# Altium schematic symbol library Sika_revb.SchLib: 143 symbols (part 3 of 3)
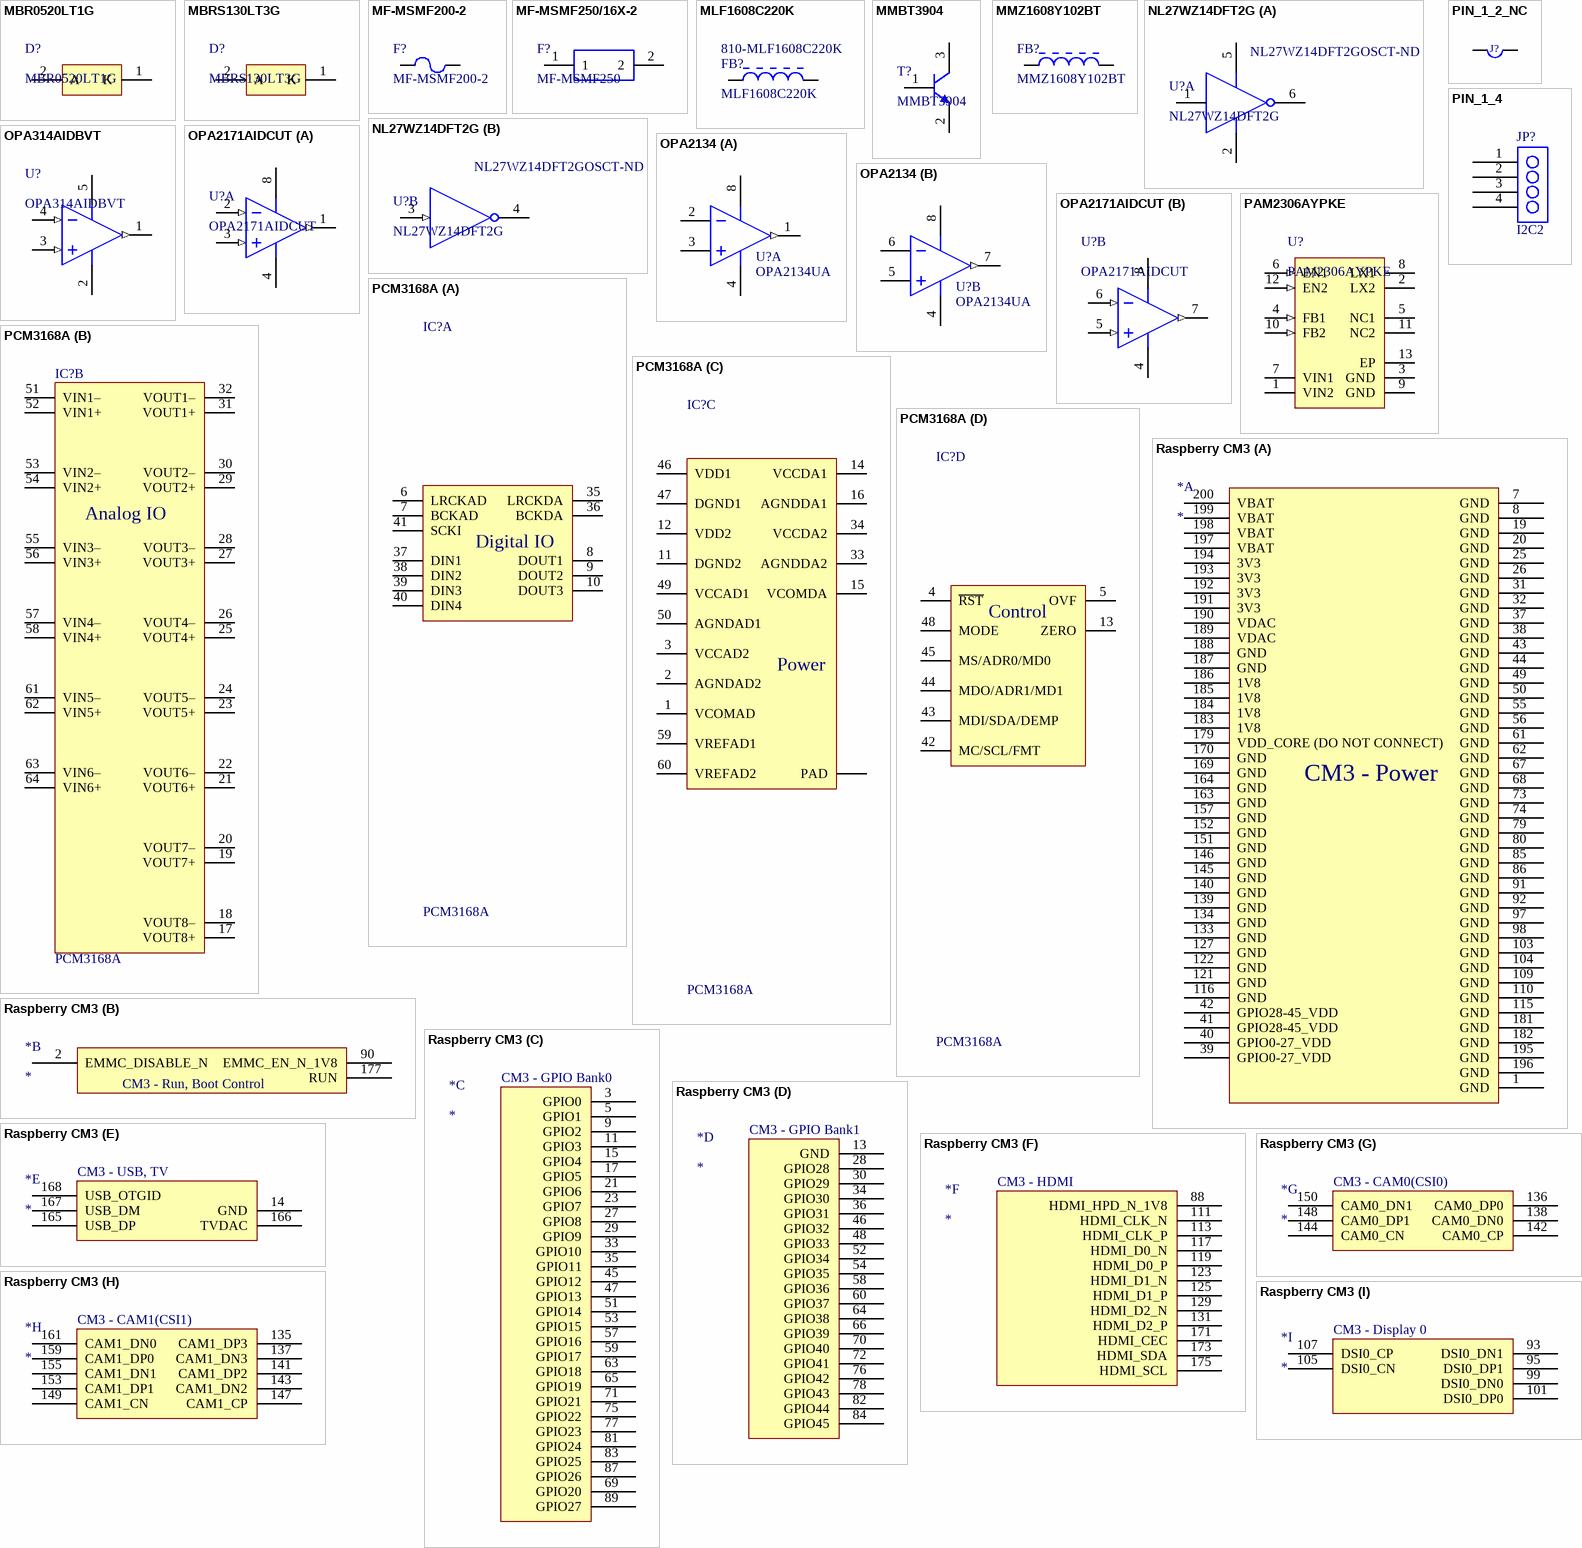
[diagram p6: symbols MBR0520LT1G to Raspberry CM3]

## NL27WZ14DFT2G
designator U?  Supplier Part Number 1: NL27WZ14DFT2GOSCT-ND
IC INVERTER SCHMITT 2CH SC88; Manufacturer: ON Semiconductor; Output Current: 32mA; Number of Inputs: 1; Propagation Delay: 9.1ns; Logic Function: Buffer; Number of Elements: 2; Min Supply Voltage: 2.3V; Max Supply Voltage: 5.5V; Quiescent Current: 1uA; High Level Output Current: -32mA; Schmitt Trigger Input: Yes; Supplier 1: Digi-Key; Manufacturer Part Number: NL27WZ14DFT2G; Stock 1: 25422; Pricing 1: 1 = 0,41000, 10 = 0,30200, 100 = 0,17080, 500 = 0,11310, 1000 = 0,08671 (USD); RoHS: Yes; Mount: Surface Mount; Case/Package: SOT-363; Number of Pins: 6; Contact Plating: Tin; Min Operating Temperature: -55°C; Max Operating Temperature: 125°C; Package Quantity: 3000; Packaging: Tape and Reel; Number of Circuits: 2; Low Level Output Current: 32mA; Turn-On Delay Time: 9.1ns; Number of Gates: 1; Length: 0.086inch; Height: 0.043inch; Width: 0.053inch; Radiation Hardening: No; REACH SVHC: No SVHC; Lead Free: Lead Free; Halogen Free: Halogen Free; ComponentLink1URL: https://datasheet.ciiva.com/7970/1596374-7970326.pdf?src-supplier=Element14; ComponentLink1Description: https://datasheet.ciiva.com/7970/1596374-7970326.pdf?src-supplier=Element14; ComponentLink2URL: https://datasheet.ciiva.com/1864/nl27wz14-d-1864356.pdf?src-supplier=Digi-Key; ComponentLink2Description: https://datasheet.ciiva.com/1864/nl27wz14-d-1864356.pdf?src-supplier=Digi-Key; ComponentLink3URL: https://datasheet.ciiva.com/26042/nl27wz14-d-26042229.pdf?src-supplier=Avnet+Europe; ComponentLink3Description: https://datasheet.ciiva.com/26042/nl27wz14-d-26042229.pdf?src-supplier=Avnet+Europe; ComponentLink4URL: https://datasheet.ciiva.com/1864/nl27wz14-d-1864358.pdf?src-supplier=Digi-Key; ComponentLink4Description: https://datasheet.ciiva.com/1864/nl27wz14-d-1864358.pdf?src-supplier=Digi-Key; ComponentLink5URL: https://datasheet.ciiva.com/18428/70100679-18428183.pdf?src-supplier=Allied+Electronics; ComponentLink5Description: https://datasheet.ciiva.com/18428/70100679-18428183.pdf?src-supplier=Allied+Electronics; ComponentLink6URL: https://datasheet.ciiva.com/8248/nl27wz14-d-8248856.pdf?src-supplier=Avnet; ComponentLink6Description: https://datasheet.ciiva.com/8248/nl27wz14-d-8248856.pdf?src-supplier=Avnet; ComponentLink7URL: https://datasheet.ciiva.com/8246/nl27wz14-d-8246937.pdf?src-supplier=Avnet; ComponentLink7Description: https://datasheet.ciiva.com/8246/nl27wz14-d-8246937.pdf?src-supplier=Avnet; ComponentLink8URL: https://datasheet.ciiva.com/16471/nl27wz14-d-16471561.pdf?src-supplier=Future+Electronics; ComponentLink8Description: https://datasheet.ciiva.com/16471/nl27wz14-d-16471561.pdf?src-supplier=Future+Electronics; ComponentLink9URL: https://datasheet.ciiva.com/1864/nl27wz14-d-1864357.pdf?src-supplier=Digi-Key; ComponentLink9Description: https://datasheet.ciiva.com/1864/nl27wz14-d-1864357.pdf?src-supplier=Digi-Key; ComponentLink10URL: https://datasheet.ciiva.com/4827/nl27wz14-d-4827241.pdf?src-supplier=Mouser; ComponentLink10Description: https://datasheet.ciiva.com/4827/nl27wz14-d-4827241.pdf?src-supplier=Mouser; ComponentLink11URL: https://datasheet.ciiva.com/7970/nl27wz14-d-7970461.pdf?src-supplier=Element14; ComponentLink11Description: https://datasheet.ciiva.com/7970/nl27wz14-d-7970461.pdf?src-supplier=Element14
footprint sc-88 (SC-88, SOT23)
part A pins: 1 IN-, 2 V- (power), 5 V+ (power), 6 OUT
part B pins: 3 IN- (in), 4 OUT

## OPA314AIDBVT
designator U?
Operational Amplifiers - Op Amps 3MHz,RRIO,1.8V CMOS Op Amp; Manufacturer: Texas Instruments; Max Supply Voltage: 5.5V; Min Dual Supply Voltage: 900mV; Max Dual Supply Voltage: 2.75V; Voltage Gain: 128dB; Common Mode Rejection Ratio: 75dB; Output Current: 20mA; Nominal Supply Current: 150uA; Number of Channels: 1; Slew Rate: 1.5V/µs; Max I/O Voltage: 2.5mV; Input Bias Current: 10pA; Power Supply Rejection Ratio (PSRR): 78dB; Max Frequency: 1kHz; Manufacturer Part Number: OPA314AIDBVT; Case/Package: SOT-23; Number of Pins: 5; Min Operating Temperature: -40°C; Max Operating Temperature: 125°C; Min Supply Voltage: 1.8V; Gain Bandwidth Product: 3MHz; Package Quantity: 250; Packaging: Tape and Reel; Bandwidth: 3MHz; Unity Gain Bandwidth Product: 3MHz; Nominal Gain Bandwidth Product: 3MHz; Number of Circuits: 1; Input Offset Voltage (Vos): 2.5mV; Operating Supply Current: 150uA; Output Current per Channel: 20mA; Number of Amplifiers: 1; Number of Elements: 1; Length: 3.05mm; Height: 1.3mm; Width: 1.75mm; Radiation Hardening: No; REACH SVHC: No SVHC; Lead Free: Lead Free; Supplier 1: Digi-Key; Supplier 2: Mouser; Supplier Part Number 1: 296-39122-1-ND; Supplier Part Number 2: 595-OPA314AIDBVT
footprint TI-DBV5_N (SOT23, 5-Leads, Body 2.9x1.6mm, Pitch 0.95mm, IPC Medium Density)
pins: 1 OUT (out), 2 V- (power), 3 IN+ (in), 4 IN- (in), 5 V+ (power)

## OPA2134
designator U?, comment OPA2134UA
Sound Plus Low-Power, Low-Noise and Distortion, Audio Operational Amplifier, 3 to 36 V, -40 to 85 degC, 8-pin SOIC (D8), Green (RoHS & no Sb/Br); Bandwidth: 22000000.0 Hz; Input Offset Drift: 2e-06 V/K; Lead-Free Status: Lead Free; Number of Channels: 2; Slew Rate: 17.0 V/μs; Gain Bandwidth Product: 22000000.0 Hz; Lifecycle Status: Active; Number of Pins: 8; REACH SVHC Compliance: No SVHC; RoHS: Compliant; Thermal Shutdown: No; Manufacturer Part Number: OPA2134UA; Supplier 1: Digi-Key; Supplier 2: Mouser; Supplier Part Number 1: 296-22024-1-ND; Supplier Part Number 2: 595-OPA2134UA/2K5
footprint TI-D8_N (SOIC, 8-Leads, Body 4.9x3.9mm, Pitch 1.27mm, IPC Medium Density)
footprint TI-D8_L (SOIC, 8-Leads, Body 4.9x3.9mm, Pitch 1.27mm, IPC High Density)
footprint TI-D8_M (SOIC, 8-Leads, Body 4.9x3.9mm, Pitch 1.27mm, IPC Low Density)
pins on every part: 4 V- (power), 8 V+ (power)
part A pins: 1 OUT A (out), 2 IN A-, 3 IN A+
part B pins: 5 IN B+, 6 IN B-, 7 OUT B (out)

## OPA2171AIDCUT
designator U?
IC OPAMP GP 3MHZ RRO US8; Manufacturer: Texas Instruments; Number of Channels: 2; Slew Rate: 1.5V/µs; Input Bias Current: 15pA; Input Offset Voltage (Vos): 250uV; Operating Supply Current: 475uA; Min Supply Voltage: 2.7V; Max Supply Voltage: 36V; Min Dual Supply Voltage: 1.35V; Max Dual Supply Voltage: 18V; Voltage Gain: 130dB; Common Mode Rejection Ratio: 104dB; Output Current per Channel: 35mA; Output Current: 25mA; Max I/O Voltage: 1.8mV; Power Supply Rejection Ratio (PSRR): 120dB; Max Frequency: 1MHz; Manufacturer Part Number: OPA2171AIDCUT; Case/Package: VSSOP; Number of Pins: 8; Contact Plating: Gold; Min Operating Temperature: -40°C; Max Operating Temperature: 125°C; Gain Bandwidth Product: 3MHz; Packaging: Tape and Reel; Number of Circuits: 2; Package Quantity: 1; Unity Gain Bandwidth Product: 3MHz; Nominal Supply Current: 475uA; Nominal Gain Bandwidth Product: 3MHz; Number of Elements: 2; Operating Supply Voltage: 18V; Number of Amplifiers: 2; Bandwidth: 3MHz; Length: 2.1mm; Height: 0.8mm; Width: 2.4mm; Radiation Hardening: No; Lead Free: Lead Free; REACH SVHC: No SVHC; Supplier 1: Digi-Key; Supplier 2: Mouser; Supplier Part Number 1: 296-29514-1-ND; Supplier Part Number 2: 595-OPA2171AIDCUT
footprint TI-DCU8_N (SOP, 8-Leads, Body 2.2x2mm, Pitch 0.5mm, IPC Medium Density)
part A pins: 1 OUT A (out), 2 IN A- (in), 3 IN A+ (in), 4 V- (power), 8 V+ (power)
part B pins: 4 V- (power), 5 IN B+ (in), 6 IN B- (in), 7 OUT B (out), 8 V+ (power)

## PAM2306AYPKE
designator U?
PSU_Conv DC-DC Dual Step Down 2.5V 5.5V 12-Pin WDFN T/R; Manufacturer: Diodes; Number of Outputs: 2; Output Voltage: 3.3V; Max Output Current: 1A; Efficiency: 96%; Switching Frequency: 1.5MHz; Synchronous Rectifier: Yes; Operating Supply Current: 40uA; Output Type: Fixed; Output Configuration: Positive; Supplier 1: Digi-Key; Manufacturer Part Number: PAM2306AYPKE; Stock 1: 0; Mount: Surface Mount; Number of Pins: 12; Min Operating Temperature: -40°C; Max Operating Temperature: 85°C; Packaging: Tape and Reel; Min Input Voltage: 2.5V; Max Input Voltage: 5.5V; Min Output Voltage: 3.3V; Output Current: 1A; Package Quantity: 3000; Min Supply Voltage: 2.5V; Operating Supply Voltage: 5.5V; Radiation Hardening: No; Lead Free: Lead Free; ComponentLink1Description: Datasheet; ComponentLink1URL: https://datasheet.octopart.com/MF-MSMF200-2-Bourns-datasheet-10413427.pdf; Supplier Part Number 1: PAM2306AYPKE-ND
footprint PAM2306AYPKE
pins: 1 VIN2 (power) "Power Input of Channel 2.", 2 LX2 "Pin for Switching of Channel 2.", 3 GND (power) "Ground. The exposed pad must be soldered to a large PCB and connected to GND for maximum power dissipation", 4 FB1 (in) "Feedback of Channel 1.", 5 NC1 "No Connection", 6 EN1 (in) "Chip Enable of Channel 1 (Active High). VEN1 ≤ VIN1.", 7 VIN1 (power) "Power Input of Channel 1.", 8 LX1 "Pin for Switching of Channel 1.", 9 GND (power) "Ground. The exposed pad must be soldered to a large PCB and connected to GND for maximum power dissipation", 10 FB2 (in) "Feedback of Channel 2.", 11 NC2 "No Connection", 12 EN2 (in) "Feedback of Channel 2.", 13 EP (power) "Exposed Pad"

## PCM3168A
designator IC?
6-In/8-Out Audio Codec With Differential Input/Output; Manufacturer Part Number: PCM3168APAP; Supplier 1: Digi-Key; Supplier 2: Mouser; Supplier Part Number 1: 296-31710-1-ND; Supplier Part Number 2: 595-PCM3168APAPR; RoHS: Yes
footprint TSQFP50P1200X1200X120_HS-65N
part A pins: 6 LRCKAD, 7 BCKAD, 8 DOUT1, 9 DOUT2, 10 DOUT3, 35 LRCKDA, 36 BCKDA, 37 DIN1, 38 DIN2, 39 DIN3, 40 DIN4, 41 SCKI
part B pins: 17 VOUT8+, 18 VOUT8–, 19 VOUT7+, 20 VOUT7–, 21 VOUT6+, 22 VOUT6–, 23 VOUT5+, 24 VOUT5–, 25 VOUT4+, 26 VOUT4–, 27 VOUT3+, 28 VOUT3–, 29 VOUT2+, 30 VOUT2–, 31 VOUT1+, 32 VOUT1–, 51 VIN1–, 52 VIN1+, 53 VIN2–, 54 VIN2+, 55 VIN3–, 56 VIN3+, 57 VIN4–, 58 VIN4+, 61 VIN5–, 62 VIN5+, 63 VIN6–, 64 VIN6+
part C pins: 1 VCOMAD, 2 AGNDAD2, 3 VCCAD2, 11 DGND2, 12 VDD2, 14 VCCDA1, 15 VCOMDA, 16 AGNDDA1, 33 AGNDDA2, 34 VCCDA2, 46 VDD1, 47 DGND1, 49 VCCAD1, 50 AGNDAD1, 59 VREFAD1, 60 VREFAD2, 65 PAD
part D pins: 4 ~{RST}, 5 OVF, 13 ZERO, 42 MC/SCL/FMT, 43 MDI/SDA/DEMP, 44 MDO/ADR1/MD1, 45 MS/ADR0/MD0, 48 MODE
part A text: Digital IO
part B text: Analog IO
part C text: Power
part D text: Control

## PIN_1_2_NC
designator J?  (value not drawn)  (no BOM)
0.1" 2 way pinheader NC
footprint HDR1X2
pins: 1, 2

## PIN_1_4
designator JP?, comment I2C2
footprint HDR1X4
footprint HDR1X4H
footprint MHDR1X4
pins: 1, 2, 3, 4

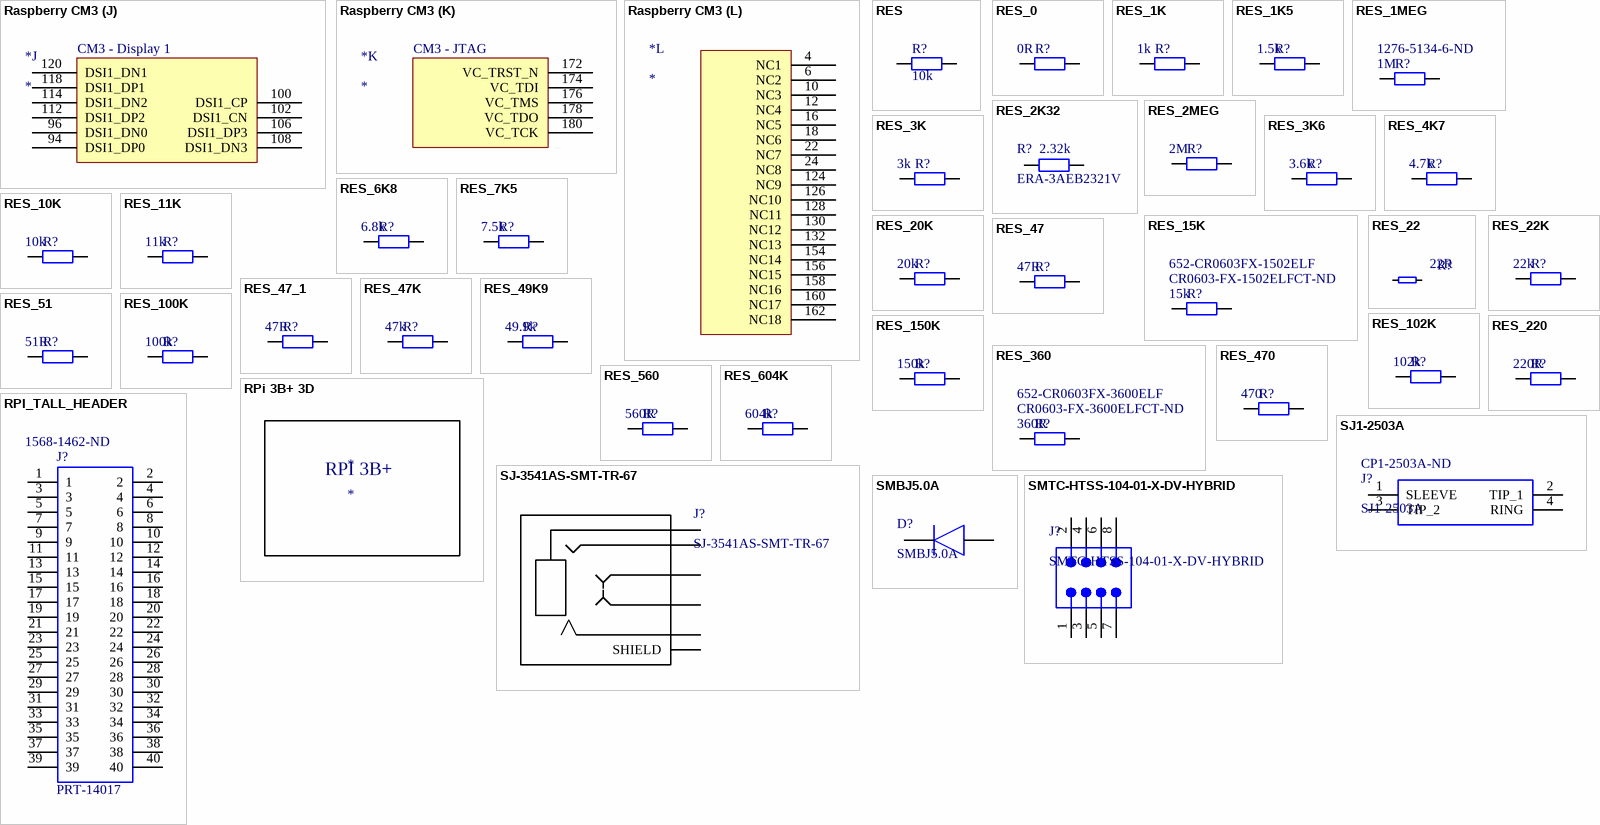
[diagram p3: symbols Raspberry CM3 to SMTC-HTSS-104-01-X-DV-HYBRID]

## Raspberry CM3
designator *
footprint T_TYCO_1473005-1
part A pins: 1 GND (power), 7 GND (power), 8 GND (power), 19 GND (power), 20 GND (power), 25 GND (power), 26 GND (power), 31 GND (power), 32 GND (power), 37 GND (power), 38 GND (power), 39 GPIO0-27_VDD (power), 40 GPIO0-27_VDD (power), 41 GPIO28-45_VDD (power), 42 GPIO28-45_VDD (power), 43 GND (power), 44 GND (power), 49 GND (power), 50 GND (power), 55 GND (power), 56 GND (power), 61 GND (power), 62 GND (power), 67 GND (power), 68 GND (power), 73 GND (power), 74 GND (power), 79 GND (power), 80 GND (power), 85 GND (power), 86 GND (power), 91 GND, 92 GND, 97 GND (power), 98 GND (power), 103 GND (power), 104 GND (power), 109 GND (power), 110 GND (power), 115 GND (power), 116 GND (power), 121 GND (power), 122 GND (power), 127 GND (power), 133 GND (power), 134 GND (power), 139 GND, 140 GND, 145 GND (power), 146 GND (power), 151 GND (power), 152 GND (power), 157 GND (power), 163 GND (power), 164 GND (power), 169 GND (power), 170 GND (power), 179 VDD_CORE (DO NOT CONNECT) (power), 181 GND (power), 182 GND (power), 183 1V8 (power), 184 1V8 (power), 185 1V8 (power), 186 1V8 (power), 187 GND (power), 188 GND (power), 189 VDAC (power), 190 VDAC (power), 191 3V3 (power), 192 3V3 (power), 193 3V3 (power), 194 3V3 (power), 195 GND (power), 196 GND (power), 197 VBAT (power), 198 VBAT (power), 199 VBAT (power), 200 VBAT (power)
part B pins: 2 EMMC_DISABLE_N, 90 EMMC_EN_N_1V8, 177 RUN
part C pins: 3 GPIO0, 5 GPIO1, 9 GPIO2, 11 GPIO3, 15 GPIO4, 17 GPIO5, 21 GPIO6, 23 GPIO7, 27 GPIO8, 29 GPIO9, 33 GPIO10, 35 GPIO11, 45 GPIO12, 47 GPIO13, 51 GPIO14, 53 GPIO15, 57 GPIO16, 59 GPIO17, 63 GPIO18, 65 GPIO19, 69 GPIO20, 71 GPIO21, 75 GPIO22, 77 GPIO23, 81 GPIO24, 83 GPIO25, 87 GPIO26, 89 GPIO27
part D pins: 13 GND, 28 GPIO28, 30 GPIO29, 34 GPIO30, 36 GPIO31, 46 GPIO32, 48 GPIO33, 52 GPIO34, 54 GPIO35, 58 GPIO36, 60 GPIO37, 64 GPIO38, 66 GPIO39, 70 GPIO40, 72 GPIO41, 76 GPIO42, 78 GPIO43, 82 GPIO44, 84 GPIO45
part E pins: 14 GND, 165 USB_DP, 166 TVDAC, 167 USB_DM, 168 USB_OTGID
part F pins: 88 HDMI_HPD_N_1V8, 111 HDMI_CLK_N, 113 HDMI_CLK_P, 117 HDMI_D0_N, 119 HDMI_D0_P, 123 HDMI_D1_N, 125 HDMI_D1_P, 129 HDMI_D2_N, 131 HDMI_D2_P, 171 HDMI_CEC, 173 HDMI_SDA, 175 HDMI_SCL
part G pins: 136 CAM0_DP0, 138 CAM0_DN0, 142 CAM0_CP, 144 CAM0_CN, 148 CAM0_DP1, 150 CAM0_DN1
part H pins: 135 CAM1_DP3, 137 CAM1_DN3, 141 CAM1_DP2, 143 CAM1_DN2, 147 CAM1_CP, 149 CAM1_CN, 153 CAM1_DP1, 155 CAM1_DN1, 159 CAM1_DP0, 161 CAM1_DN0
part I pins: 93 DSI0_DN1, 95 DSI0_DP1, 99 DSI0_DN0, 101 DSI0_DP0, 105 DSI0_CN, 107 DSI0_CP
part J pins: 94 DSI1_DP0, 96 DSI1_DN0, 100 DSI1_CP, 102 DSI1_CN, 106 DSI1_DP3, 108 DSI1_DN3, 112 DSI1_DP2, 114 DSI1_DN2, 118 DSI1_DP1, 120 DSI1_DN1
part K pins: 172 VC_TRST_N, 174 VC_TDI, 176 VC_TMS, 178 VC_TDO, 180 VC_TCK
part L pins: 4 NC1, 6 NC2, 10 NC3, 12 NC4, 16 NC5, 18 NC6, 22 NC7, 24 NC8, 124 NC9, 126 NC10, 128 NC11, 130 NC12, 132 NC13, 154 NC14, 156 NC15, 158 NC16, 160 NC17, 162 NC18
part A text: CM3 - Power
part B text: CM3 - Run, Boot Control
part C text: CM3 - GPIO Bank0
part D text: CM3 - GPIO Bank1
part E text: CM3 - USB, TV
part F text: CM3 - HDMI
part G text: CM3 - CAM0(CSI0)
part H text: CM3 - CAM1(CSI1)
part I text: CM3 - Display 0
part J text: CM3 - Display 1
part K text: CM3 - JTAG

## RES
designator R?, comment 10k
Resistor, Ceramic; Power rating: *mW; Precision: *%; Temp coefficient: *ppm; Voltage rating: *V; CustomComponentID: rbfzudi508nk54panp5s; Resistance: 10k
footprint R0603
footprint R1206
pins: 1, 2

## RES_0
designator R?, comment Resistance: 0R  (hidden comment: CR0603-J/-000ELF)
Resistor, Ceramic; Power rating: *mW; Precision: *%; Temp coefficient: *ppm; Voltage rating: *V; CustomComponentID: rbfzudi508nk54panp5s; Supplier 1: Digi-Key; Supplier 2: Mouser; Supplier Part Number 1: CR0603-J/-000ELFCT-ND; Supplier Part Number 2: 652-CR0603-J/-000ELF
footprint R0603
pins: 1, 2

## RES_1K
designator R?, comment Resistance: 1k  (hidden comment: CR0603-FX-1001ELF)
Resistor, Ceramic; Power rating: *mW; Precision: *%; Temp coefficient: *ppm; Voltage rating: *V; CustomComponentID: rbfzudi508nk54panp5s; Supplier 1: Digi-Key; Supplier Part Number 1: CR0603-FX-1001ELFCT-ND
footprint R0603
pins: 1, 2

## RES_1K5
designator R?, comment Resistance: 1.5k  (hidden comment: CR0603-FX-1501ELF)
Resistor, Ceramic; Power rating: *mW; Precision: *%; Temp coefficient: *ppm; Voltage rating: *V; CustomComponentID: rbfzudi508nk54panp5s; Supplier 1: Digi-Key; Supplier Part Number 1: CR0603-FX-1501ELFCT-ND
footprint R0603
pins: 1, 2

## RES_1MEG
designator R?, comment Resistance: 1M  Supplier Part Number 1: 1276-5134-6-ND  (hidden comment: RC1608J105CS)
Resistor, Ceramic; Power rating: *mW; Precision: *%; Temp coefficient: *ppm; Voltage rating: *V; CustomComponentID: rbfzudi508nk54panp5s; Supplier 1: Digi-Key
footprint R0603
pins: 1, 2

## RES_2K32
designator R?, comment ERA-3AEB2321V  Resistance: 2.32k
RES SMD 2.32KOHM 0.1% 1/10W 0603; Manufacturer: Panasonic; Temperature Coefficient: 25ppm/°C; Power Rating: 100mW; Voltage Rating: 75V; Supplier 1: Digi-Key; Manufacturer Part Number: ERA-3AEB2321V; Stock 1: 19422; Pricing 1: 1 = 0,35000, 10 = 0,30000, 100 = 0,11720, 1000 = 0,04906, 2500 = 0,04498 (USD); RoHS: Yes; Mount: Surface Mount; Case/Package: 0603; Number of Pins: 2; Contact Plating: Tin; Case Code (Metric): 1608; Case Code (Imperial): 0603; Min Operating Temperature: -55°C; Max Operating Temperature: 155°C; Tolerance: 0.1%; Composition: Thin Film; Packaging: Tape and Reel; Package Quantity: 5000; Number of Terminations: 2; Termination: SMD/SMT; Military Standard: Not; Max Power Dissipation: 100mW; Voltage Rating (DC): 75V; Length: 1.6mm; Height: 0.45mm; Width: 0.8mm; Depth: 0.8mm; Radiation Hardening: No; REACH SVHC: No SVHC; Lead Free: Lead Free; ComponentLink1URL: https://datasheet.ciiva.com/11814/0900766b80eb1d8c-11814828.pdf?src-supplier=RSComponents; ComponentLink1Description: https://datasheet.ciiva.com/11814/0900766b80eb1d8c-11814828.pdf?src-supplier=RSComponents; ComponentLink2URL: https://datasheet.ciiva.com/9197/aoa0000ce26-9197143.pdf?src-supplier=Avnet; ComponentLink2Description: https://datasheet.ciiva.com/9197/aoa0000ce26-9197143.pdf?src-supplier=Avnet; ComponentLink3URL: https://datasheet.ciiva.com/6201/485442-6201019.pdf?src-supplier=Farnell; ComponentLink3Description: https://datasheet.ciiva.com/6201/485442-6201019.pdf?src-supplier=Farnell; ComponentLink4URL: https://datasheet.ciiva.com/6201/485442-6201021.pdf?src-supplier=Farnell; ComponentLink4Description: https://datasheet.ciiva.com/6201/485442-6201021.pdf?src-supplier=Farnell; ComponentLink5URL: https://datasheet.ciiva.com/41450/001180821-da-01-en-widerstand-era-0603-2k32-0-1-5000st-41450138.pdf?src-supplier=Conrad; ComponentLink5Description: https://datasheet.ciiva.com/41450/001180821-da-01-en-widerstand-era-0603-2k32-0-1-5000st-41450138.pdf?src-supplier=Conrad; Supplier Part Number 1: P2.32KDBCT-ND
footprint r0603
pins: 1, 2

## RES_2MEG
designator R?, comment Resistance: 2M  (hidden comment: RC1608J205CS)
Resistor, Ceramic; Power rating: *mW; Precision: *%; Temp coefficient: *ppm; Voltage rating: *V; CustomComponentID: rbfzudi508nk54panp5s; Supplier 1: Digi-Key; Supplier Part Number 1: 1276-5141-1-ND
footprint R0603
pins: 1, 2

## RES_3K
designator R?, comment Resistance: 3k  (hidden comment: CR0603-FX-3001ELF)
Resistor, Ceramic; Power rating: *mW; Precision: *%; Temp coefficient: *ppm; Voltage rating: *V; CustomComponentID: rbfzudi508nk54panp5s; Supplier 1: Digi-Key; Supplier Part Number 1: CR0603-FX-3001ELFCT-ND
footprint R0603
pins: 1, 2

## RES_3K6
designator R?, comment Resistance: 3.6k  (hidden comment: CR0603-FX-3601ELF)
Resistor, Ceramic; Power rating: *mW; Precision: *%; Temp coefficient: *ppm; Voltage rating: *V; CustomComponentID: rbfzudi508nk54panp5s; Supplier 1: Digi-Key; Supplier Part Number 1: CR0603-FX-3601ELFCT-ND
footprint R0603
pins: 1, 2

## RES_4K7
designator R?, comment Resistance: 4.7k  (hidden comment: CR0603-FX-4701ELF)
Resistor, Ceramic; Power rating: *mW; Precision: *%; Temp coefficient: *ppm; Voltage rating: *V; CustomComponentID: rbfzudi508nk54panp5s; Supplier 1: Digi-Key; Supplier Part Number 1: CR0603-FX-4701ELFCT-ND
footprint R0603
pins: 1, 2

## RES_6K8
designator R?, comment Resistance: 6.8k  (hidden comment: CR0603-FX-6801ELF)
Resistor, Ceramic; Power rating: *mW; Precision: *%; Temp coefficient: *ppm; Voltage rating: *V; CustomComponentID: rbfzudi508nk54panp5s; Supplier 1: Digi-Key; Supplier Part Number 1: CR0603-FX-6801ELFCT-ND
footprint R0603
pins: 1, 2

## RES_7K5
designator R?, comment Resistance: 7.5k  (hidden comment: CR0603-FX-7501ELF)
Resistor, Ceramic; Power rating: *mW; Precision: *%; Temp coefficient: *ppm; Voltage rating: *V; CustomComponentID: rbfzudi508nk54panp5s; Supplier 1: Digi-Key; Supplier Part Number 1: CR0603-FX-7501ELFCT-ND
footprint R0603
pins: 1, 2

## RES_10K
designator R?, comment Resistance: 10k  (hidden comment: CR0603-FX-1002ELF)
Resistor, Ceramic; Power rating: *mW; Precision: *%; Temp coefficient: *ppm; Voltage rating: *V; CustomComponentID: rbfzudi508nk54panp5s; Supplier 1: Digi-Key; Supplier Part Number 1: CR0603-FX-1002ELFCT-ND
footprint R0603
pins: 1, 2

## RES_11K
designator R?, comment Resistance: 11k  (hidden comment: CR0603-FX-1102ELF)
Resistor, Ceramic; Power rating: *mW; Precision: *%; Temp coefficient: *ppm; Voltage rating: *V; CustomComponentID: rbfzudi508nk54panp5s; Supplier 1: Digi-Key; Supplier Part Number 1: CR0603-FX-1102ELFCT-ND
footprint R0603
pins: 1, 2

## RES_15K
designator R?, comment Resistance: 15k  Supplier Part Number 1: CR0603-FX-1502ELFCT-ND  Supplier Part Number 2: 652-CR0603FX-1502ELF  (hidden comment: CR0603-FX-1502ELF)
Resistor, Ceramic; Power rating: *mW; Precision: *%; Temp coefficient: *ppm; Voltage rating: *V; CustomComponentID: rbfzudi508nk54panp5s; Supplier 1: Digi-Key; Supplier 2: Mouser
footprint R0603
pins: 1, 2

## RES_20K
designator R?, comment Resistance: 20k  (hidden comment: CR0603-FX-2002ELF)
Resistor, Ceramic; Power rating: *mW; Precision: *%; Voltage rating: *V; CustomComponentID: rbfzudi508nk54panp5s; Temp coefficient: *ppm; Supplier 1: Digi-Key; Supplier 2: Mouser; Supplier Part Number 1: CR0603-FX-2002ELFCT-ND; Supplier Part Number 2: 652-CR0603FX-2002ELF
footprint r0603
pins: 1, 2

## RES_22
designator R?, comment Resistance: 22R  (hidden comment: RC1608F220CS)
Resistor, Ceramic; Power rating: *mW; Precision: *%; Temp coefficient: *ppm; Voltage rating: *V; CustomComponentID: rbfzudi508nk54panp5s; Supplier 1: Digi-Key; Supplier 2: Digi-Key; Supplier Part Number 1: 1276-4511-1-ND; Supplier Part Number 2: 1276-4511-6-ND
footprint R0603
pins: 1, 2

## RES_22K
designator R?, comment Resistance: 22k  (hidden comment: CR0603-FX-2202ELF)
Resistor, Ceramic; Power rating: *mW; Precision: *%; Temp coefficient: *ppm; Voltage rating: *V; CustomComponentID: rbfzudi508nk54panp5s; Supplier 1: Digi-Key; Supplier Part Number 1: CR0603-FX-2202ELFCT-ND
footprint R0603
pins: 1, 2

## RES_47
designator R?, comment Resistance: 47R  (hidden comment: CR1206-FX-47R0ELF)
Resistor, Ceramic; Power rating: *mW; Precision: *%; Temp coefficient: *ppm; Voltage rating: *V; CustomComponentID: rbfzudi508nk54panp5s; Supplier 1: Digi-Key; Supplier 2: Mouser; Supplier Part Number 2: 652-CR1206FX-47R0ELF; Supplier Part Number 1: CR1206-FX-47R0ELFCT-ND
footprint R1206
pins: 1, 2

## RES_47_1
designator R?, comment Resistance: 47R  (hidden comment: CR0603-FX-47R0ELF)
Resistor, Ceramic; Power rating: *mW; Precision: *%; Temp coefficient: *ppm; Voltage rating: *V; CustomComponentID: rbfzudi508nk54panp5s; Supplier 1: Digi-Key; Supplier 2: Mouser; Supplier Part Number 1: CR0603-FX-47R0ELFCT-ND; Supplier Part Number 2: 652-CR0603FX-47R0ELF
footprint r0603
pins: 1, 2

## RES_47K
designator R?, comment Resistance: 47k  (hidden comment: CR0603-FX-4702ELF)
Resistor, Ceramic; Power rating: *mW; Precision: *%; Temp coefficient: *ppm; Voltage rating: *V; CustomComponentID: rbfzudi508nk54panp5s; Supplier 1: Digi-Key; Supplier Part Number 1: CR0603-FX-4702ELFCT-ND
footprint R0603
pins: 1, 2

## RES_49K9
designator R?, comment Resistance: 49.9k  (hidden comment: CR0603-FX-4992ELF)
Resistor, Ceramic; Power rating: *mW; Precision: *%; Temp coefficient: *ppm; Voltage rating: *V; CustomComponentID: rbfzudi508nk54panp5s; Supplier 1: Digi-Key; Supplier 2: Mouser; Supplier Part Number 1: CR0603-FX-4992ELFCT-ND; Supplier Part Number 2: 652-CR0603FX-4992ELF
footprint R0603
pins: 1, 2

## RES_51
designator R?, comment Resistance: 51R  (hidden comment: CR0603-FX-51R0ELF)
Resistor, Ceramic; Power rating: *mW; Precision: *%; Temp coefficient: *ppm; Voltage rating: *V; CustomComponentID: rbfzudi508nk54panp5s; Supplier 1: Digi-Key; Supplier 2: Mouser; Supplier Part Number 1: CR0603-FX-51R0ELFCT-ND; Supplier Part Number 2: 652-CR0603FX-51R0ELF
footprint R0603
pins: 1, 2

## RES_100K
designator R?, comment Resistance: 100k  (hidden comment: CR0603-FX-1003ELF)
Resistor, Ceramic; Power rating: *mW; Precision: *%; Temp coefficient: *ppm; Voltage rating: *V; CustomComponentID: rbfzudi508nk54panp5s; Supplier 1: Digi-Key; Supplier 2: Mouser; Supplier Part Number 1: CR0603-FX-1003ELFCT-ND; Supplier Part Number 2: 652-CR0603-FX-103ELF
footprint R0603
pins: 1, 2

## RES_102K
designator R?, comment Resistance: 102k  (hidden comment: CR0603-FX-1023ELF)
Resistor, Ceramic; Power rating: *mW; Precision: *%; Temp coefficient: *ppm; Voltage rating: *V; CustomComponentID: rbfzudi508nk54panp5s; Supplier 1: Digi-Key; Supplier 2: Mouser; Supplier Part Number 1: CR0603-FX-1023ELFCT-ND; Supplier Part Number 2: 652-CR0603FX-1023ELF
footprint R0603
pins: 1, 2

## RES_150K
designator R?, comment Resistance: 150k  (hidden comment: CR0603-FX-1503ELF)
Resistor, Ceramic; Power rating: *mW; Precision: *%; Temp coefficient: *ppm; Voltage rating: *V; CustomComponentID: rbfzudi508nk54panp5s; Supplier 1: Digi-Key; Supplier 2: Mouser; Supplier Part Number 1: CR0603-FX-1503ELFCT-ND; Supplier Part Number 2: 652-CR0603FX-1503ELF
footprint R0603
pins: 1, 2

## RES_220
designator R?, comment Resistance: 220R  (hidden comment: CR0603-FX-2200ELF)
Resistor, Ceramic; Power rating: *mW; Precision: *%; Temp coefficient: *ppm; Voltage rating: *V; CustomComponentID: rbfzudi508nk54panp5s; Supplier 1: Digi-Key; Supplier 2: Mouser; Supplier Part Number 2: 652-CR0603FX-2200ELF; Supplier Part Number 1: CR0603-FX-2200ELFCT-ND
footprint R0603
pins: 1, 2

## RES_360
designator R?, comment Resistance: 360R  Supplier Part Number 1: CR0603-FX-3600ELFCT-ND  Supplier Part Number 2: 652-CR0603FX-3600ELF  (hidden comment: CR0603-FX-3600ELF)
Resistor, Ceramic; Power rating: *mW; Precision: *%; Voltage rating: *V; CustomComponentID: rbfzudi508nk54panp5s; Temp coefficient: *ppm; Supplier 1: Digi-Key; Supplier 2: Mouser
footprint r0603
pins: 1, 2

## RES_470
designator R?, comment Resistance: 470  (hidden comment: CR0603-FX-4700ELF)
Resistor, Ceramic; Power rating: *mW; Precision: *%; Temp coefficient: *ppm; Voltage rating: *V; CustomComponentID: rbfzudi508nk54panp5s; Supplier 1: Digi-Key; Supplier 2: Mouser; Supplier Part Number 1: CR0603-FX-4700ELFCT-ND; Supplier Part Number 2: 652-CR0603FX-4700ELF
footprint r0603
pins: 1, 2

## RES_560
designator R?, comment Resistance: 560R  (hidden comment: CR0603-FX-5600ELF)
Resistor, Ceramic; Power rating: *mW; Precision: *%; Temp coefficient: *ppm; Voltage rating: *V; CustomComponentID: rbfzudi508nk54panp5s; Supplier 1: Digi-Key; Supplier 2: Mouser; Supplier Part Number 1: CR0603-FX-5600ELFCT-ND; Supplier Part Number 2: 652-CR0603FX-5600ELF
footprint R0603
pins: 1, 2

## RES_604K
designator R?, comment Resistance: 604k  (hidden comment: CR0603-FX-6043ELF)
Resistor, Ceramic; Power rating: *mW; Precision: *%; Temp coefficient: *ppm; Voltage rating: *V; CustomComponentID: rbfzudi508nk54panp5s; Supplier 1: Mouser; Supplier 2: Digi-Key; Supplier Part Number 1: 652-CR0603-FX6043ELF; Supplier Part Number 2: CR0603-FX-6043ELF-ND
footprint R0603
pins: 1, 2

## RPi 3B+ 3D
designator *
footprint RPI 3b+
text: RPI 3B+

## RPI_TALL_HEADER
designator J?, comment PRT-14017  Supplier Part Number 2: 1568-1462-ND
PC/104 Connectors 40P SOLDER TAIL 3.2MM PC104; Manufacturer_Name: 3M; Manufacturer_Part_Number: 4P01-2A02-DA; Manufacturer: SparkFun; Allied_Number: 70114575; Geometry.Height: 11.2mm; Description: RASPBERRY PI GPIO TALL HEADER; RS Part Number: 8277403; RS Price/Stock: http://uk.rs-online.com/web/p/products/8277403; Allied Price/Stock: https://www.alliedelec.com/3m-4p01-2a02-da/70114575/; Arrow Part Number: 4P01-2A02-DA; Arrow Price/Stock: https://www.arrow.com/en/products/4p01-2a02-da/3m; Datasheet Link: http://multimedia.3m.com/mws/media/729589O/3mtm-conn-for-pc104-embedded-sys-apps-compliantbuscomp-cd2392.pdf; Supplier 1: Digi-Key; Supplier Part Number 1: SAM9012-ND; Supplier 2: Digi-Key; Manufacturer Part Number: PRT-14017; Stock 2: 976; Pricing 2: 1 = 1,95000 (USD); RoHS: No; ComponentLink1URL: https://media.digikey.com/pdf/Data%20Sheets/Sparkfun%20PDFs/PRT-14017_Web.pdf?src-supplier=Digi-Key; ComponentLink1Description: https://media.digikey.com/pdf/Data%20Sheets/Sparkfun%20PDFs/PRT-14017_Web.pdf?src-supplier=Digi-Key; ComponentLink2URL: https://media.digikey.com/pdf/Data%20Sheets/Sparkfun%20PDFs/PRT-14017_Web.pdf?src-supplier=Mouser; ComponentLink2Description: https://media.digikey.com/pdf/Data%20Sheets/Sparkfun%20PDFs/PRT-14017_Web.pdf?src-supplier=Mouser
footprint RPI_TALL_HEADER
pins: 1, 2, 3, 4, 5, 6, 7, 8, 9, 10, 11, 12, 13, 14, 15, 16, 17, 18, 19, 20, 21, 22, 23, 24, 25, 26, 27, 28, 29, 30, 31, 32, 33, 34, 35, 36, 37, 38, 39, 40

## SJ1-2503A
designator J?  Supplier Part Number 1: CP1-2503A-ND
CONN JACK STEREO 2.5MM R/A; Manufacturer: CUI; Body Material: Brass; Gender: Female; Shielding: Unshielded; Current Rating: 1A; Number of Conductors: 3; Number of Ports: 1; Supplier 1: Digi-Key; Manufacturer Part Number: SJ1-2503A; Stock 1: 55345; Pricing 1: 1 = 0,68000, 10 = 0,64200, 25 = 0,57800, 50 = 0,51360, 100 = 0,49220, 250 = 0,44940, 500 = 0,42800, 1000 = 0,35310, 2500 = 0,32100 (USD); RoHS: Yes; Mount: Through Hole; Contact Plating: Tin; Color: Black; Packaging: Bulk; Termination: Solder; Orientation: Horizontal; Connector Type: Jack; Diameter: 2.5mm; Lead Free: Lead Free; ComponentLink1URL: http://www.cui.com/Product/Resource/FuturePDF/SJ1-2503A.pdf?src-supplier=Future+Electronics; ComponentLink1Description: http://www.cui.com/Product/Resource/FuturePDF/SJ1-2503A.pdf?src-supplier=Future+Electronics; ComponentLink2URL: https://www.cui.com/product/resource/digikeypdf/sj1-2503a.pdf?src-supplier=Digi-Key; ComponentLink2Description: https://www.cui.com/product/resource/digikeypdf/sj1-2503a.pdf?src-supplier=Digi-Key
footprint SJ12503A
pins: 1 SLEEVE, 2 TIP_1, 3 TIP_2, 4 RING

## SJ-3541AS-SMT-TR-67
designator J?
STEREO JACK, IP67, 3.5, 5 CONDUC; Manufacturer: CUI; Supplier 1: Mouser; Manufacturer Part Number: SJ-3541AS-SMT-TR-67; Stock 1: 1323; Pricing 1: 1 = 3,18000, 10 = 3,05000, 50 = 2,67000, 100 = 2,54000, 1000 = 1,85000, 10000 = 1,72000 (USD); RoHS: No; ComponentLink1URL: https://www.cui.com/product/resource/digikeypdf/sj-3541as-smt-tr-67.pdf?src-supplier=Digi-Key; ComponentLink1Description: https://www.cui.com/product/resource/digikeypdf/sj-3541as-smt-tr-67.pdf?src-supplier=Digi-Key; Supplier Part Number 1: 490-SJ-3541ASSMTTR67; Datasheet: https://www.cui.com/product/resource/sj-3541as-smt-tr-67.pdf
footprint CUI_SJ-3541AS-SMT-TR-67_SJ-3541AS-SMT-TR-67
pins: 1, 2, 3, 4, 5, S1 SHIELD, S2 SHIELD

## SMBJ5.0A
designator D?
TVS DIODE 5VWM 9.2VC DO214AA; Manufacturer: Bourns; Reverse Standoff Voltage: 5V; Min Breakdown Voltage: 6.4V; Clamping Voltage: 9.2V; Peak Pulse Power: 600W; Peak Pulse Current: 65.2A; Direction: Unidirectional; Max Surge Current: 100A; Breakdown Voltage: 7.25V; Max Reverse Leakage Current: 800uA; Test Current: 10mA; Operating Supply Voltage: 3.5V; Number of Elements: 1; Element Configuration: Single; Power Line Protection: No; ESD Protection: Yes; Manufacturer Part Number: SMBJ5.0A; Mount: Surface Mount; Case/Package: SMB; Number of Pins: 2; Min Operating Temperature: -55°C; Max Operating Temperature: 150°C; Packaging: Tape and Reel; Package Quantity: 1; Polarity: Unidirectional; Max Breakdown Voltage: 7.25V; Reverse Breakdown Voltage: 6.4V; Number of Channels: 1; Termination: SMD/SMT; Leakage Current: 800uA; Number of Unidirectional Channels: 1; Max Power Dissipation: 600W; Composition: Zener; Length: 4.57mm; Height: 2.42mm; Width: 3.94mm; Radiation Hardening: No; REACH SVHC: No SVHC; ComponentLink1URL: https://www.bourns.com/docs/Product-Datasheets/SMBJ.pdf; ComponentLink1Description: https://www.bourns.com/docs/Product-Datasheets/SMBJ.pdf; ComponentLink2URL: http://www.farnell.com/datasheets/1677318.pdf; ComponentLink2Description: http://www.farnell.com/datasheets/1677318.pdf; ComponentLink3URL: http://www.bourns.com/docs/Product-Datasheets/SMBJ.pdf; ComponentLink3Description: http://www.bourns.com/docs/Product-Datasheets/SMBJ.pdf; ComponentLink4URL: http://www.mouser.com/ds/2/54/mbj-778392.pdf; ComponentLink4Description: http://www.mouser.com/ds/2/54/mbj-778392.pdf; ComponentLink5URL: http://www.bourns.com/data/global/pdfs/SMBJ.pdf; ComponentLink5Description: http://www.bourns.com/data/global/pdfs/SMBJ.pdf; ComponentLink6URL: http://www.produktinfo.conrad.com/datenblaetter/1000000-1099999/001056320-da-01-en-TVS_DIODE_SMBJ5_0A_DO_214AA_BOU.pdf; ComponentLink6Description: http://www.produktinfo.conrad.com/datenblaetter/1000000-1099999/001056320-da-01-en-TVS_DIODE_SMBJ5_0A_DO_214AA_BOU.pdf; Supplier 1: Digi-Key; Supplier 2: Mouser; Supplier Part Number 1: 497-1236-1-ND; Supplier Part Number 2: 511-LD1117DT33-TR
footprint DIOM5436X265N
pins: 1 K, 2 A

## SMTC-HTSS-104-01-X-DV-HYBRID
designator J?
footprint SMTC-HTSS-104-01-X-DV-HYBRID (High Temp Top Shroud, 2x4 Pins, Vertical, 2.54mm Pitch, Male)
footprint SMTC-MTSW-104-12-X-D-006 (Assembly .025" [.64] SQ Post Terminal Strip, 2x4 Pins, Vertical, 2.54mm Pitch, Male)
footprint header 2x4 male (header, 2x4 Pins, Vertical, 2.54mm Pitch, Male)
pins: 1, 2, 3, 4, 5, 6, 7, 8

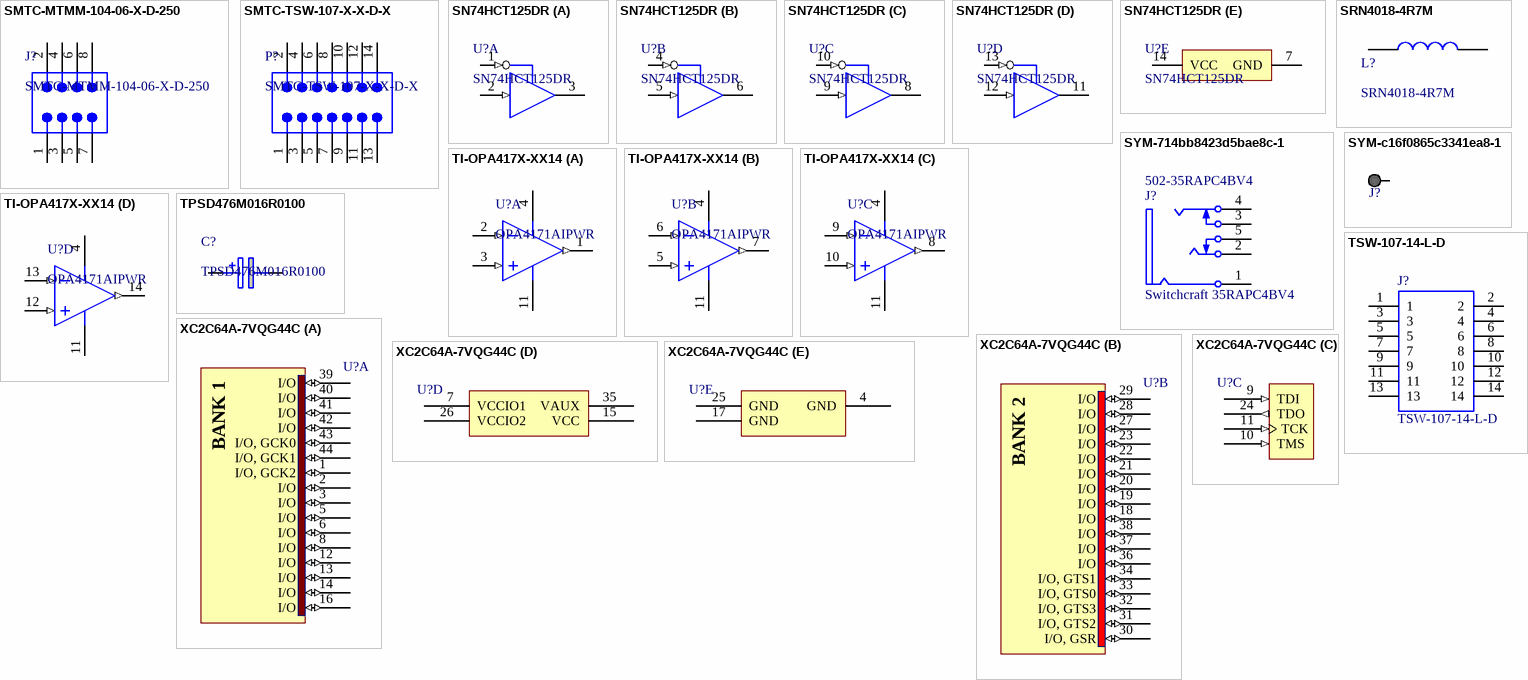
[diagram p4: symbols SMTC-MTMM-104-06-X-D-250 to XC2C64A-7VQG44C]

## SMTC-MTMM-104-06-X-D-250
designator J?
footprint SMTC-MTMM-104-06-X-D-250 (Terminal Strip Assembly, 2x4 Pins, Vertical, 2mm Pitch, Male)
pins: 1, 2, 3, 4, 5, 6, 7, 8

## SMTC-TSW-107-X-X-D-X
designator P?
footprint SMTC-PHT-107-02-X-D (Press Fit Socket Assembly, 2x7 Pins, Vertical, 2.54mm Pitch, Male)
pins: 1, 2, 3, 4, 5, 6, 7, 8, 9, 10, 11, 12, 13, 14

## SN74HCT125DR
designator U?
IC BUS BUFF TRI-ST QD 14SOIC; Manufacturer: Texas Instruments; Number of Elements: 4; Propagation Delay: 50ns; Max Supply Voltage: 5.5V; Min Supply Voltage: 4.5V; Logic Function: Buffer,Inverting; Operating Supply Voltage: 5V; High Level Output Current: -6mA; Low Level Output Current: 6mA; Turn-On Delay Time: 36ns; Quiescent Current: 8uA; Number of Bits per Element: 1; Polarity: Non-Inverting; Manufacturer Part Number: SN74HCT125DR; Mount: Surface Mount; Case/Package: SOIC; Number of Pins: 14; Contact Plating: Gold; Min Operating Temperature: -40°C; Max Operating Temperature: 85°C; Package Quantity: 2500; Packaging: Tape and Reel; Number of Inputs: 4; Number of Outputs: 4; Number of Input Lines: 4; Number of Output Lines: 4; Number of Bits: 4; Number of Channels: 4; Number of Circuits: 4; Length: 8.65mm; Height: 1.58mm; Width: 3.91mm; Radiation Hardening: No; Lead Free: Lead Free; REACH SVHC: No SVHC; ComponentLink1URL: http://www.ti.com/lit/ds/symlink/sn74hct125.pdf; ComponentLink1Description: http://www.ti.com/lit/ds/symlink/sn74hct125.pdf; ComponentLink2URL: http://focus.ti.com/lit/ds/symlink/sn74hct125.pdf; ComponentLink2Description: http://focus.ti.com/lit/ds/symlink/sn74hct125.pdf; ComponentLink3URL: http://www.ti.com/general/docs/lit/getliterature.tsp?genericPartNumber=SN74HCT125&&fileType=pdf; ComponentLink3Description: http://www.ti.com/general/docs/lit/getliterature.tsp?genericPartNumber=SN74HCT125&&fileType=pdf; ComponentLink4URL: https://www.verical.com/server-webapp/html/getDatasheet?partID=44442; ComponentLink4Description: https://www.verical.com/server-webapp/html/getDatasheet?partID=44442; ComponentLink5URL: http://www.jameco.com/Jameco/Products/ProdDS/916633.pdf; ComponentLink5Description: http://www.jameco.com/Jameco/Products/ProdDS/916633.pdf; Supplier 1: Digi-Key; Supplier Part Number 1: 296-1206-1-ND
footprint D0014A_M (SOIC, 14-Leads, Body 8.75x4mm, Pitch 1.27mm, IPC Low Density)
part A pins: 1 1~{OE} (in), 2 1A (in), 3 1Y (hiz)
part B pins: 4 2~{OE} (in), 5 2A (in), 6 2Y (hiz)
part C pins: 8 3Y (hiz), 9 3A (in), 10 3~{OE} (in)
part D pins: 11 4Y (hiz), 12 4A (in), 13 4~{OE} (in)
part E pins: 7 GND (power), 14 VCC (power)

## SRN4018-4R7M
designator L?
PSU_FIXED IND 4.7UH 1.9A 84 MOHM SMD; Manufacturer: Bourns; Core Material: Ferrite; Material: Steel; Saturation Current: 2A; Tolerance: 20%; Shielding: Shielded; DC Resistance (DCR): 84mR; Self Resonant Frequency: 35MHz; Test Frequency: 100kHz; Manufacturer Part Number: SRN4018-4R7M; Mount: Surface Mount; Case/Package: Nonstandard; Number of Pins: 2; Min Operating Temperature: -25°C; Max Operating Temperature: 120°C; Packaging: Cut Tape; Package Quantity: 3000; Current Rating: 1.9A; Inductance: 4.7uh; Inductance Tolerance: 20%; Composition: Wirewound; Max DC Current: 1.9A; Termination: SMD/SMT; RMS Current (Irms): 1.9A; DC Current: 1.9A; Military Standard: Not; Length: 4mm; Height: 1.8mm; Width: 4mm; Height - Seated (Max): 0.071inch; Depth: 4.2mm; Radiation Hardening: No; REACH SVHC: No SVHC; Supplier 1: Digi-Key; Supplier 2: Mouser; Supplier Part Number 1: SRN4018-4R7MCT-ND; Supplier Part Number 2: 652-SRN4018-4R7M
footprint SRN4018
pins: 1, 2

## SYM-714bb8423d5bae8c-1
designator J?, comment Switchcraft 35RAPC4BV4  Supplier Part Number 1: 502-35RAPC4BV4
Conn 3.5MM Stereo Jack F 5 POS Solder RA Thru-Hole 5 Terminal 1 Port; Number of Contacts: 3; Mounting Angle: 90.0 °; Gender: Male; Lead-Free Status: Lead Free; Octopart URL: http://octopart.com/35rapc4bv4-switchcraft-223606; Manufacturer Part Number: 35RAPC4BV4; Color: Black; REACH SVHC Compliance: No SVHC; Mounting Style: Vertical, PCB, Solder; Number of Positions: 3; Packaging: Bulk; RoHS: Compliant; Size-Diameter: 3.50 mm; Contact Plating: Tin; OctopartID: 714bb8423d5bae8c; Supplier 1: Mouser
footprint PCB-e35mp0ex9bgwkrf13yjt-1 (Footprint - Switchcraft 35RAPC4BV4)
pins: 1 S, 2 T, 3 RN, 4 R, 5 TN

## SYM-c16f0865c3341ea8-1
designator J?, comment Keystone 5000  (value not drawn)
PLATE, DIAL, 2.188IN DIA; Label Type: Dia; Label Size: 2.3/16"; Material: Aluminium; Colour: Black; Manufacturer Part Number: 5000; Lead-Free Status: Lead Free; Packaging: Bag; Contact Material: Phosphor Bronze; Mounting Style: Through Hole, PCB; Size-Inner Diameter: 1.27 mm; OctopartID: c16f0865c3341ea8; Size-Length: 7.62 mm; Size-Diameter: 55.6 mm; Material: Aluminum; Color: Black; RoHS: Non-Compliant; Octopart URL: http://octopart.com/5000-keystone-10045; Contact Plating: Silver, Tin; Size-Height: 7.62 mm; Supplier 1: Digi-Key; Supplier 2: Mouser; Supplier Part Number 1: 36-5000-ND; Supplier Part Number 2: 534-5000
footprint PCB-160ru2rcn7fnmbmh8vtj-1 (Footprint not found)
pins: 1

## TI-OPA417X-XX14
designator U?, comment OPA4171AIPWR
Supplier 1: Digi-Key; Supplier 2: Mouser; Supplier Part Number 1: 296-29651-1-ND; Supplier Part Number 2: 595-OPA4171AIPWR
footprint TSSOP_14 (SOP, 14-Leads, Body 5.1x4.5mm, Pitch 0.65mm, IPC Low Density)
pins on every part: 4 V+ (power), 11 V- (power)
part A pins: 1 OUT A (out), 2 IN A- (in), 3 IN A+ (in)
part B pins: 5 IN B+ (in), 6 IN B- (in), 7 OUT B (out)
part C pins: 8 OUT C (out), 9 IN C- (in), 10 IN C+ (in)
part D pins: 12 IN D+ (in), 13 IN D- (in), 14 OUT D (out)

## TPSD476M016R0100
designator C?
Tantalum Capacitors - Solid SMD 16V 47uF 20% Tol. 100 ESR; Manufacturer: Kyocera AVX; ESR (Equivalent Series Resistance): 100mR; Polarity: Polar; Dissipation Factor: 6%; Manufacturer Part Number: TPSD476M016R0100; Mount: Surface Mount; Case/Package: 2917; Number of Pins: 2; Weight: 0.023634oz; Case Code (Metric): 7343; Case Code (Imperial): 2917; Dielectric Material: Tantalum; Min Operating Temperature: -55°C; Max Operating Temperature: 125°C; Capacitance: 47uF; Tolerance: 20%; Package Quantity: 500; Voltage Rating: 16V; Packaging: Tape and Reel; Termination: SMD/SMT; Voltage Rating (DC): 16V; Features: General Purpose; Length: 7.3mm; Height: 3.1mm; Depth: 4.3mm; Width: 0.169inch; Height - Seated (Max): 0.122inch; Radiation Hardening: No; Lead Free: Lead Free; Supplier 1: Mouser; Supplier Part Number 1: 581-TPSD476M016R0100
footprint CAPPC7526X310N
pins: 1 +, 2 -

## TSW-107-14-L-D
designator J?
Samtec TSW Series, 2.54mm Pitch 14 Way 2 Row Straight PCB Header, Solder Termination, 7.6A; Geometry.Height: 10.67mm; Manufacturer_Name: SAMTEC; Manufacturer_Part_Number: TSW-107-14-L-D; RS Part Number: 7670974P; RS Price/Stock: http://uk.rs-online.com/web/p/products/7670974P; Arrow Part Number: TSW-107-14-L-D; Arrow Price/Stock: http://uk.rs-online.com/web/p/products/7670974P; Datasheet Link: https://docs-emea.rs-online.com/webdocs/1154/0900766b81154476.pdf
footprint HDRV14W64P254_2X7_1778X502X1067P
pins: 1, 2, 3, 4, 5, 6, 7, 8, 9, 10, 11, 12, 13, 14

## XC2C64A-7VQG44C
designator U?
XILINX - XC2C64A-7VQG44C. - CPLD, COOLRUNNER-II, 64MCELL, 44VQFP; Propagation Delay: 4.6ns; Operating Supply Voltage: 1.8V; Number of Gates: 1500; Number of Logic Blocks (LABs): 4; Number of Macrocells: 64; Speed Grade: 7; Max Frequency: 159MHz; Number of I/Os: 33; Memory Type: ROMless; Turn-On Delay Time: 7.5ns; Min Supply Voltage: 1.7V; Max Supply Voltage: 1.9V; Manufacturer: Xilinx; Manufacturer Part Number: XC2C64A-7VQG44C; RoHS: Yes; Mount: Surface Mount; Case/Package: TQFP; Number of Pins: 44; Min Operating Temperature: 0°C; Max Operating Temperature: 70°C; Number of Logic Elements/Cells: 4; Packaging: Tray; Package Quantity: 160; Frequency: 159MHz; Termination: SMD/SMT; Lead Free: Lead Free; REACH SVHC: Unknown; ComponentLink1URL: http://www.farnell.com/datasheets/1770236.pdf?src-supplier=Element14; ComponentLink1Description: http://www.farnell.com/datasheets/1770236.pdf?src-supplier=Element14; ComponentLink2URL: http://www.xilinx.com/support/documentation/data_sheets/ds311.pdf?src-supplier=Digi-Key; ComponentLink2Description: http://www.xilinx.com/support/documentation/data_sheets/ds311.pdf?src-supplier=Digi-Key; ComponentLink3URL: http://www.xilinx.com/support/documentation/data_sheets/ds311.pdf?src-supplier=Farnell; ComponentLink3Description: http://www.xilinx.com/support/documentation/data_sheets/ds311.pdf?src-supplier=Farnell; Supplier 1: Digi-Key; Supplier Part Number 1: 122-1410-ND
footprint VQG44_M (Thin QFP, 44-Leads, Body 10x10mm, Pitch 0.8mm, IPC Low Density)
part A pins: 1 I/O, GCK2 (io), 2 I/O (io), 3 I/O (io), 5 I/O (io), 6 I/O (io), 8 I/O (io), 12 I/O (io), 13 I/O (io), 14 I/O (io), 16 I/O (io), 39 I/O (io), 40 I/O (io), 41 I/O (io), 42 I/O (io), 43 I/O, GCK0 (io), 44 I/O, GCK1 (io)
part B pins: 18 I/O (io), 19 I/O (io), 20 I/O (io), 21 I/O (io), 22 I/O (io), 23 I/O (io), 27 I/O (io), 28 I/O (io), 29 I/O (io), 30 I/O, GSR (io), 31 I/O, GTS2 (io), 32 I/O, GTS3 (io), 33 I/O, GTS0 (io), 34 I/O, GTS1 (io), 36 I/O (io), 37 I/O (io), 38 I/O (io)
part C pins: 9 TDI (in), 10 TMS (in), 11 TCK (in), 24 TDO (out)
part D pins: 7 VCCIO1 (power), 15 VCC (power), 26 VCCIO2 (power), 35 VAUX (power)
part E pins: 4 GND (power), 17 GND (power), 25 GND (power)
part A text: BANK 1
part B text: BANK 2